# EAGLE library part MICROSIM (library 1zac)
Micro SIM card slor sold by AND global. Link: AND GLOBAL MicroSIM CARD SLOT <https://goo.gl/uBNRrN>
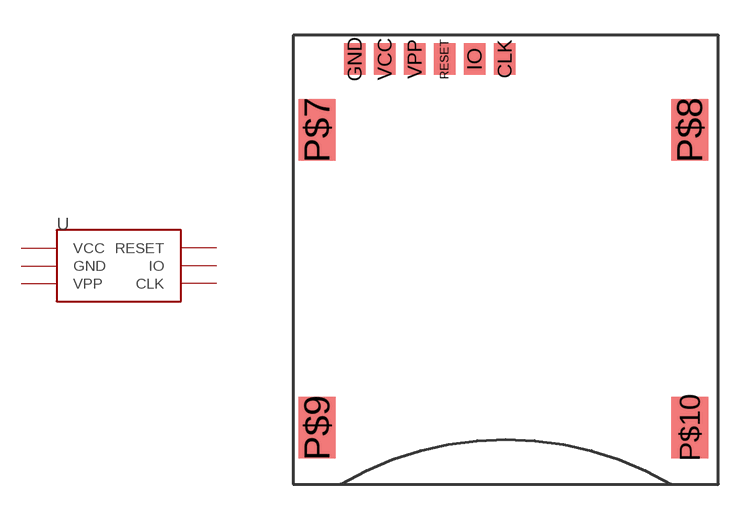
[diagram p8: symbol with the pads of MICROSIM; footprint MICROSIM]

Designator prefix -

## MICROSIM  [MICROSIM]
CLK  CLK
GND  GND
IO  IO
RESET  RESET
VCC  VCC
VPP  VPP

## Footprint MICROSIM (pad centres in mm)
smd 0.9 x 1.34: CLK 7.95,3; GND 1.6,3; IO 6.68,3; RESET 5.41,3; VCC 2.87,3; VPP 4.14,3
smd 1.56 x 2.61: P$7 0,0; P$8 15.78,0; P$9 0,-12.61; P$10 15.78,-12.61